# Altium schematic symbol library INFINITY.Resistor.SchLib: 5 symbols
Pins are listed as number, name and electrical type; pins without a type are passive.

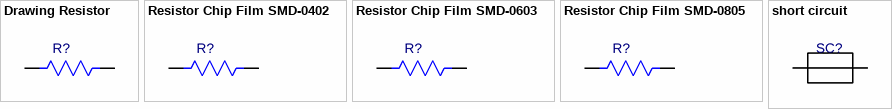
[diagram p0: symbols Drawing Resistor to short circuit]

## Drawing Resistor
designator R?
pins: 1, 2

## Resistor Chip Film SMD-0402
designator R?
pins: 1, 2

## Resistor Chip Film SMD-0603
designator R?
pins: 1, 2

## Resistor Chip Film SMD-0805
designator R?
pins: 1, 2

## short circuit
designator SC?
pins: 1, 2